# EAGLE library part BL8034 (library _mtvl.power)
4A, 16V High Efficiency Synchronous Step-Down Converter Datesheet <https://www.belling.com.cn/media/file_object/bel_product/BL8034/datasheet/BL8034%20Datasheet%20V1.3.pdf>
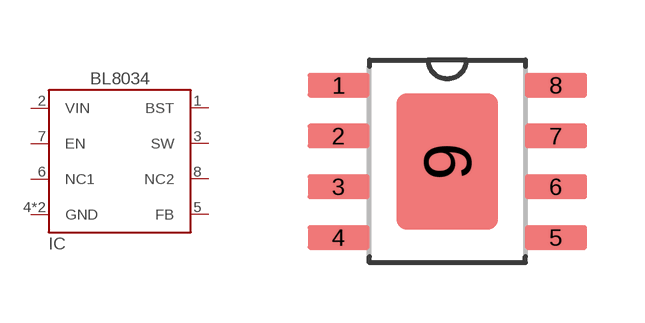
[diagram p25: symbol with the pads of SO8_EP; footprint SO8_EP]

Designator prefix IC

## BL8034CS8  [SO8_EP]
1  BST  in
2  VIN  sup
3  SW  out
4  GND  sup
5  FB  in
6  NC1  nc
7  EN
8  NC2  nc
9  GND  sup

## Footprint SO8_EP (pad centres in mm)
smd 1.549 x 0.61: 1 -2.718,1.905; 2 -2.718,0.635; 3 -2.718,-0.635; 4 -2.718,-1.905; 5 2.718,-1.905; 6 2.718,-0.635; 7 2.718,0.635; 8 2.718,1.905
smd 2.54 x 3.404: 9 0,0